# Altium schematic symbol library CTS 12-Position DIP Switch.SchLib: 1 symbol
Pins are listed as number, name and electrical type; pins without a type are passive.

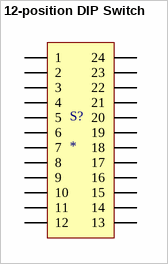
[diagram p0: symbol 12-position DIP Switch]

## 12-position DIP Switch
designator S?
Manufacturer: CTS Electronics; Manufacturer No.: 209-12LPST
footprint 12-Position DIP Switch
pins: 1, 2, 3, 4, 5, 6, 7, 8, 9, 10, 11, 12, 13, 14, 15, 16, 17, 18, 19, 20, 21, 22, 23, 24